# EAGLE library part SURFACE05-2-M (library dtb)
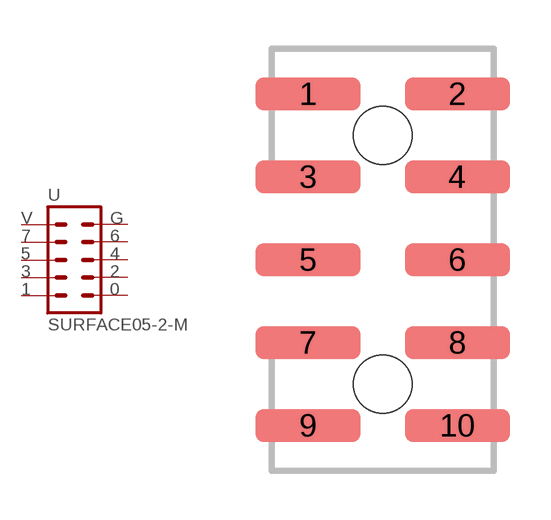
[diagram p6: symbol with the pads of 2X5-SHROUDED_SMD; footprint 2X5-SHROUDED_SMD]

Designator prefix -

## SURFACE05-2-M  [2X5-SHROUDED_SMD]
1  2  pas
2  1  pas
3  4  pas
4  3  pas
5  6  pas
6  5  pas
7  8  pas
8  7  pas
9  10  pas
10  9  pas

## Footprint 2X5-SHROUDED_SMD (pad centres in mm)
smd 3.2 x 1: 1 -2.286,5.08; 2 2.286,5.08; 3 -2.286,2.54; 4 2.286,2.54; 5 -2.286,0; 6 2.286,0; 7 -2.286,-2.54; 8 2.286,-2.54; 9 -2.286,-5.08; 10 2.286,-5.08
hole 1.78 at 0,3.81
hole 1.78 at 0,-3.81